# Altium footprint library WR-FPC_1.00mm.PcbLib: 115 footprints (part 3 of 8)
Each footprint in its own frame and in the unit in brackets; x right, y up, seen from the top. Pads: shape width x height; smd on the part's side, far side on the other; paste and mask are expansions set on the pad; w line width, h text height; cw(c..) or ccw(c..) is an arc to the next point about the centre after c.
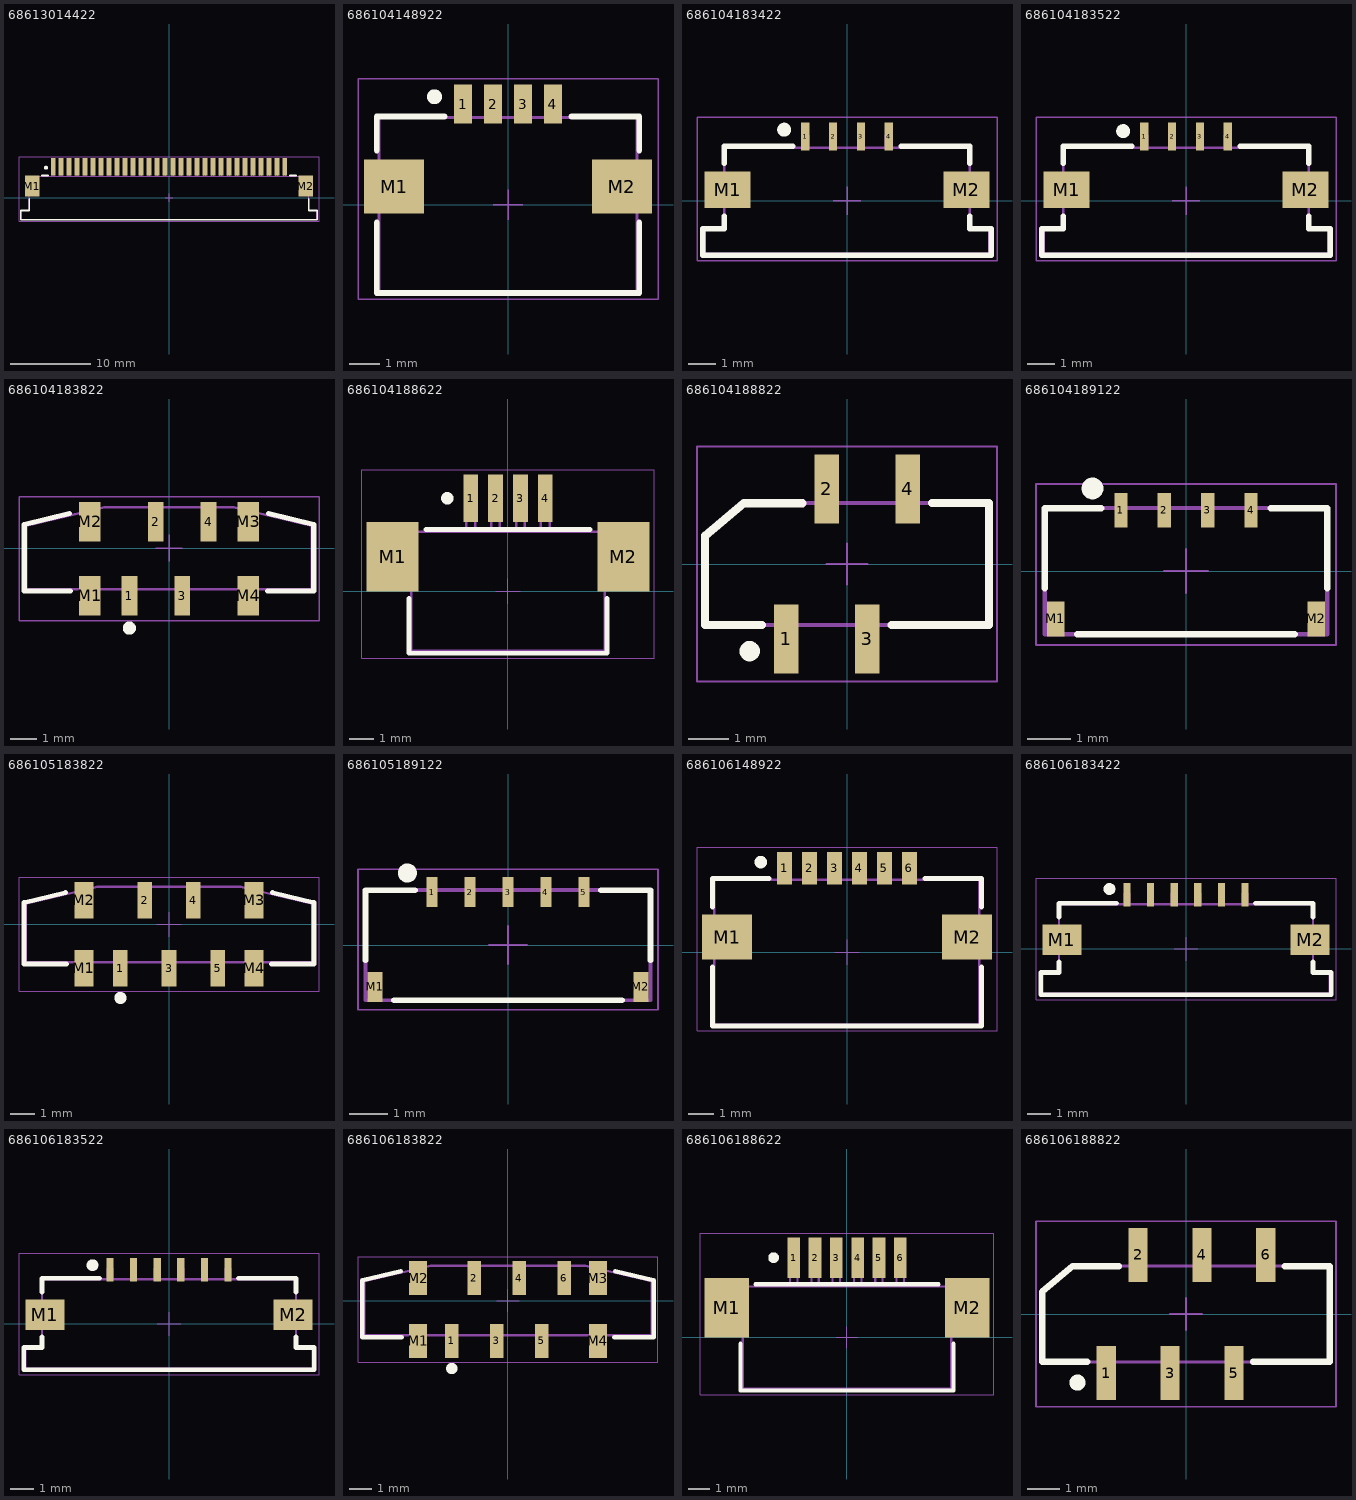
[diagram p2: the footprints below, top view; thin cyan lines are the x and y axes]

## 68613014422 [mm] "ZIF Connectors, Horizontal, Bottom Contact, pitch 1mm, 30p"
height 3.15
pads (32):
  rect 0.6x2.2 smd: 1(-14.5,3.85) 2(-13.5,3.85) 3(-12.5,3.85) 4(-11.5,3.85) 5(-10.5,3.85) 6(-9.5,3.85) 7(-8.5,3.85) 8(-7.5,3.85) 9(-6.5,3.85) 10(-5.5,3.85) 11(-4.5,3.85) 12(-3.5,3.85) 13(-2.5,3.85) 14(-1.5,3.85) 15(-0.5,3.85) 16(0.5,3.85) 17(1.5,3.85) 18(2.5,3.85) 19(3.5,3.85) 20(4.5,3.85) 21(5.5,3.85) 22(6.5,3.85) 23(7.5,3.85) 24(8.5,3.85) 25(9.5,3.85) 26(10.5,3.85) 27(11.5,3.85) 28(12.5,3.85) 29(13.5,3.85) 30(14.5,3.85)
  rect 1.8x2.6 smd: M1(-17.1,1.45) M2(17.1,1.45)
Top Overlay:
  circle w0.25: c-15.4,3.75 r0.125
  lines w0.2: -17.5,-0.15 -17.5,-1.6 -18.575,-1.6 -18.575,-2.775 18.575,-2.775 18.575,-1.6 17.5,-1.6 17.5,-0.15 ; -15.9,2.775 -15.1,2.775 ; 15.1,2.775 15.9,2.775
Top Designator:
  text ".Designator" at -7.498,-0.5 h1.5
Top Component Outline:
  lines w0.1: -14.62,2.7 -14.62,4.4 -14.38,4.4 -14.38,2.7 ; -13.62,2.7 -13.62,4.4 -13.38,4.4 -13.38,2.7 ; -12.62,2.7 -12.62,4.4 -12.38,4.4 -12.38,2.7 ; -11.62,2.7 -11.62,4.4 -11.38,4.4 -11.38,2.7 ; -10.62,2.7 -10.62,4.4 -10.38,4.4 -10.38,2.7 ; -9.62,2.7 -9.62,4.4 -9.38,4.4 -9.38,2.7 ; -8.62,2.7 -8.62,4.4 -8.38,4.4 -8.38,2.7 ; -7.62,2.7 -7.62,4.4 -7.38,4.4 -7.38,2.7 ; -6.62,2.7 -6.62,4.4 -6.38,4.4 -6.38,2.7 ; -5.62,2.7 -5.62,4.4 -5.38,4.4 -5.38,2.7 ; -4.62,2.7 -4.62,4.4 -4.38,4.4 -4.38,2.7 ; -3.62,2.7 -3.62,4.4 -3.38,4.4 -3.38,2.7 ; -2.62,2.7 -2.62,4.4 -2.38,4.4 -2.38,2.7 ; -1.62,2.7 -1.62,4.4 -1.38,4.4 -1.38,2.7 ; -0.62,2.7 -0.62,4.4 -0.38,4.4 -0.38,2.7 ; 0.38,2.7 0.38,4.4 0.62,4.4 0.62,2.7 ; 1.38,2.7 1.38,4.4 1.62,4.4 1.62,2.7 ; 2.38,2.7 2.38,4.4 2.62,4.4 2.62,2.7 ; 3.38,2.7 3.38,4.4 3.62,4.4 3.62,2.7 ; 4.38,2.7 4.38,4.4 4.62,4.4 4.62,2.7 ; 5.38,2.7 5.38,4.4 5.62,4.4 5.62,2.7 ; 6.38,2.7 6.38,4.4 6.62,4.4 6.62,2.7 ; 7.38,2.7 7.38,4.4 7.62,4.4 7.62,2.7 ; 8.38,2.7 8.38,4.4 8.62,4.4 8.62,2.7 ; 9.38,2.7 9.38,4.4 9.62,4.4 9.62,2.7 ; 10.38,2.7 10.38,4.4 10.62,4.4 10.62,2.7 ; 11.38,2.7 11.38,4.4 11.62,4.4 11.62,2.7 ; 12.38,2.7 12.38,4.4 12.62,4.4 12.62,2.7 ; 13.38,2.7 13.38,4.4 13.62,4.4 13.62,2.7 ; 14.38,2.7 14.38,4.4 14.62,4.4 14.62,2.7 ; -18.5,-2.7 18.5,-2.7 18.5,-1.6 17.5,-1.6 17.5,2.7 -17.5,2.7 -17.5,-1.6 -18.5,-1.6 -18.5,-2.7
Top 3D Body:
  lines w0.1: -14.62,2.7 -14.62,4.4 -14.38,4.4 -14.38,2.7 ; -13.62,2.7 -13.62,4.4 -13.38,4.4 -13.38,2.7 ; -12.62,2.7 -12.62,4.4 -12.38,4.4 -12.38,2.7 ; -11.62,2.7 -11.62,4.4 -11.38,4.4 -11.38,2.7 ; -10.62,2.7 -10.62,4.4 -10.38,4.4 -10.38,2.7 ; -9.62,2.7 -9.62,4.4 -9.38,4.4 -9.38,2.7 ; -8.62,2.7 -8.62,4.4 -8.38,4.4 -8.38,2.7 ; -7.62,2.7 -7.62,4.4 -7.38,4.4 -7.38,2.7 ; -6.62,2.7 -6.62,4.4 -6.38,4.4 -6.38,2.7 ; -5.62,2.7 -5.62,4.4 -5.38,4.4 -5.38,2.7 ; -4.62,2.7 -4.62,4.4 -4.38,4.4 -4.38,2.7 ; -3.62,2.7 -3.62,4.4 -3.38,4.4 -3.38,2.7 ; -2.62,2.7 -2.62,4.4 -2.38,4.4 -2.38,2.7 ; -1.62,2.7 -1.62,4.4 -1.38,4.4 -1.38,2.7 ; -0.62,2.7 -0.62,4.4 -0.38,4.4 -0.38,2.7 ; 0.38,2.7 0.38,4.4 0.62,4.4 0.62,2.7 ; 1.38,2.7 1.38,4.4 1.62,4.4 1.62,2.7 ; 2.38,2.7 2.38,4.4 2.62,4.4 2.62,2.7 ; 3.38,2.7 3.38,4.4 3.62,4.4 3.62,2.7 ; 4.38,2.7 4.38,4.4 4.62,4.4 4.62,2.7 ; 5.38,2.7 5.38,4.4 5.62,4.4 5.62,2.7 ; 6.38,2.7 6.38,4.4 6.62,4.4 6.62,2.7 ; 7.38,2.7 7.38,4.4 7.62,4.4 7.62,2.7 ; 8.38,2.7 8.38,4.4 8.62,4.4 8.62,2.7 ; 9.38,2.7 9.38,4.4 9.62,4.4 9.62,2.7 ; 10.38,2.7 10.38,4.4 10.62,4.4 10.62,2.7 ; 11.38,2.7 11.38,4.4 11.62,4.4 11.62,2.7 ; 12.38,2.7 12.38,4.4 12.62,4.4 12.62,2.7 ; 13.38,2.7 13.38,4.4 13.62,4.4 13.62,2.7 ; 14.38,2.7 14.38,4.4 14.62,4.4 14.62,2.7 ; -18.5,-2.7 -18.5,-1.6 -17.5,-1.6 -17.5,2.7 17.5,2.7 17.5,-1.6 18.5,-1.6 18.5,-2.7 -18.5,-2.7
Top Courtyard:
  lines w0.05: -0.5,0 0.5,0 ; 0,-0.5 0,0.5 ; -18.775,-2.975 18.775,-2.975 18.775,5.15 -18.775,5.15 -18.775,-2.975
3D body "68613014422.stp": height 3.02, standoff 0.01, extent -18.5,-2.7 18.5,4.4

## 686104148922 [mm] "ZIF Connectors, Horizontal, Bottom Contact Hinge Type, pitch 1mm, 4p"
height 2.3
pads (6):
  rect 0.6x1.3 smd: 1(-1.5,3.35) 2(-0.5,3.35) 3(0.5,3.35) 4(1.5,3.35)
  rect 2x1.8 smd: M1(-3.8,0.6) M2(3.8,0.6)
Top Overlay:
  circle w0.25: c-2.45,3.6 r0.125
  lines w0.2: -4.375,-0.6 -4.375,-2.95 4.375,-2.95 4.375,-0.6 ; -4.375,1.8 -4.375,2.95 -2.125,2.95 ; 2.125,2.95 4.375,2.95 4.375,1.8
Top Designator:
  text ".Designator" at -7.498,-0.5 h1.5
Top Component Outline:
  lines w0.1: -1.6,2.9 -1.6,3.6 -1.4,3.6 -1.4,2.9 ; -0.6,2.9 -0.6,3.6 -0.4,3.6 -0.4,2.9 ; 0.4,2.9 0.4,3.6 0.6,3.6 0.6,2.9 ; 1.4,2.9 1.4,3.6 1.6,3.6 1.6,2.9 ; -4.3,-2.9 4.3,-2.9 4.3,2.9 -4.3,2.9 -4.3,-2.9
Top 3D Body:
  lines w0.1: -1.6,2.9 -1.6,3.6 -1.4,3.6 -1.4,2.9 ; -0.6,2.9 -0.6,3.6 -0.4,3.6 -0.4,2.9 ; 0.4,2.9 0.4,3.6 0.6,3.6 0.6,2.9 ; 1.4,2.9 1.4,3.6 1.6,3.6 1.6,2.9 ; -4.3,-2.9 -4.3,2.9 4.3,2.9 4.3,-2.9 -4.3,-2.9
Top Courtyard:
  lines w0.05: -0.5,0 0.5,0 ; 0,-0.5 0,0.5 ; -5,-3.15 5,-3.15 5,4.2 -5,4.2 -5,-3.15
3D body "686104148922.stp": height 2.27, standoff 0.02, extent -4.3,-2.9 4.3,3.6

## 686104183422 [mm] "ZIF Connectors, Horizontal, Top Contact Low Profile, pitch 1mm, 4p"
height 1.3
pads (6):
  rect 0.3x1 smd: 1(-1.5,2.3) 2(-0.5,2.3) 3(0.5,2.3) 4(1.5,2.3)
  rect 1.65x1.3 smd: M1(-4.275,0.4) M2(4.275,0.4)
Top Overlay:
  circle w0.25: c-2.25,2.55 r0.125
  lines w0.2: -4.4,-0.55 -4.4,-1 -5.175,-1 -5.175,-1.95 5.175,-1.95 5.175,-1 4.4,-1 4.4,-0.55 ; -4.4,1.35 -4.4,1.95 -1.95,1.95 ; 1.95,1.95 4.4,1.95 4.4,1.35
Top Designator:
  text ".Designator" at -7.498,-0.5 h1.5
Top Component Outline:
  lines w0.1: -1.6,1.9 -1.6,2.35 -1.4,2.35 -1.4,1.9 ; -0.6,1.9 -0.6,2.35 -0.4,2.35 -0.4,1.9 ; 0.4,1.9 0.4,2.35 0.6,2.35 0.6,1.9 ; 1.4,1.9 1.4,2.35 1.6,2.35 1.6,1.9 ; -5.1,-1 -4.4,-1 -4.4,1.9 4.4,1.9 4.4,-1 5.1,-1 5.1,-1.9 -5.1,-1.9 -5.1,-1 ; -5.1,-1 -5.1,-1
Top 3D Body:
  lines w0.1: -1.6,1.9 -1.6,2.35 -1.4,2.35 -1.4,1.9 ; -0.6,1.9 -0.6,2.35 -0.4,2.35 -0.4,1.9 ; 0.4,1.9 0.4,2.35 0.6,2.35 0.6,1.9 ; 1.4,1.9 1.4,2.35 1.6,2.35 1.6,1.9 ; -5.1,-1 -5.1,-1.9 5.1,-1.9 5.1,-1 4.4,-1 4.4,1.9 -4.4,1.9 -4.4,-1 -5.1,-1 ; -5.1,-1 -5.1,-1
Top Courtyard:
  lines w0.05: -0.5,0 0.5,0 ; 0,-0.5 0,0.5 ; -5.375,-2.15 5.375,-2.15 5.375,3 -5.375,3 -5.375,-2.15
3D body "686104183422.stp": height 1.28, standoff -0.01, extent -5.1,-1.9 5.1,2.35

## 686104183522 [mm] "ZIF Connectors, Horizontal, Bottom Contact Low Profile, pitch 1mm, 4p"
height 1.3
pads (6):
  rect 0.3x1 smd: 1(-1.5,2.3) 2(-0.5,2.3) 3(0.5,2.3) 4(1.5,2.3)
  rect 1.65x1.3 smd: M1(-4.275,0.4) M2(4.275,0.4)
Top Overlay:
  circle w0.25: c-2.25,2.5 r0.125
  lines w0.2: -4.4,-0.55 -4.4,-1 -5.175,-1 -5.175,-1.95 5.175,-1.95 5.175,-1 4.4,-1 4.4,-0.55 ; -4.4,1.35 -4.4,1.95 -1.95,1.95 ; 1.95,1.95 4.4,1.95 4.4,1.35
Top Designator:
  text ".Designator" at -7.498,-0.5 h1.5
Top Component Outline:
  lines w0.1: -1.6,1.9 -1.6,2.35 -1.4,2.35 -1.4,1.9 ; -0.6,1.9 -0.6,2.35 -0.4,2.35 -0.4,1.9 ; 0.4,1.9 0.4,2.35 0.6,2.35 0.6,1.9 ; 1.4,1.9 1.4,2.35 1.6,2.35 1.6,1.9 ; -5.1,-1 -5.1,-1.9 5.1,-1.9 5.1,-1 4.4,-1 4.4,1.9 -4.4,1.9 -4.4,-1 -5.1,-1 ; -5.1,-1 -5.1,-1
Top 3D Body:
  lines w0.1: -1.6,1.9 -1.6,2.35 -1.4,2.35 -1.4,1.9 ; -0.6,1.9 -0.6,2.35 -0.4,2.35 -0.4,1.9 ; 0.4,1.9 0.4,2.35 0.6,2.35 0.6,1.9 ; 1.4,1.9 1.4,2.35 1.6,2.35 1.6,1.9 ; -5.1,-1 -4.4,-1 -4.4,1.9 4.4,1.9 4.4,-1 5.1,-1 5.1,-1.9 -5.1,-1.9 -5.1,-1 ; -5.1,-1 -5.1,-1
Top Courtyard:
  lines w0.05: -0.5,0 0.5,0 ; 0,-0.5 0,0.5 ; -5.375,-2.15 -5.375,3 5.375,3 5.375,-2.15 -5.375,-2.15
3D body "686104183522.stp": height 1.24, standoff -0.01, extent -5.1,-1.9 5.1,2.35

## 686104183822 [mm] "ZIF Connectors, Vertical, Type A, pitch 1mm, 4p"
height 4
pads (8):
  rect 0.6x1.5 smd: 1(-1.5,-1.8) 2(-0.5,1) 3(0.5,-1.8) 4(1.5,1)
  rect 0.8x1.5 smd: M1(-3,-1.8) M2(-3,1) M3(3,1) M4(3,-1.8)
Top Overlay:
  circle w0.25: c-1.5,-3.025 r0.125
  lines w0.2: -3.765,1.308 -5.475,0.897 -5.475,-1.625 -3.725,-1.625 ; 3.725,-1.625 5.475,-1.625 5.475,0.897 3.765,1.308
Top Designator:
  text ".Designator" at -7.498,-0.5 h1.5
Top Component Outline:
  lines w0.1: -3.2,-1.55 -3.2,-2.05 -2.8,-2.05 -2.8,-1.55 ; -1.6,-1.55 -1.6,-2.05 -1.4,-2.05 -1.4,-1.55 ; 0.4,-1.55 0.4,-2.05 0.6,-2.05 0.6,-1.55 ; 2.8,-1.55 2.8,-2.05 3.2,-2.05 3.2,-1.55 ; -5.4,-1.55 -5.4,0.84 -2.45,1.549 2.45,1.55 5.4,0.84 5.4,-1.55 -5.4,-1.55
Top 3D Body:
  lines w0.1: -3.2,-1.55 -3.2,-2.05 -2.8,-2.05 -2.8,-1.55 ; -1.6,-1.55 -1.6,-2.05 -1.4,-2.05 -1.4,-1.55 ; 0.4,-1.55 0.4,-2.05 0.6,-2.05 0.6,-1.55 ; 2.8,-1.55 2.8,-2.05 3.2,-2.05 3.2,-1.55 ; -5.4,-1.55 5.4,-1.55 5.4,0.84 2.45,1.549 -2.45,1.55 -5.4,0.84 -5.4,-1.55
Top Courtyard:
  lines w0.05: -0.5,0 0.5,0 ; 0,-0.5 0,0.5 ; -5.675,-2.75 -5.675,1.95 5.675,1.95 5.675,-2.75 -5.675,-2.75
3D body "686104183822.stp": height 4, standoff 0, extent -5.4,-2.05 5.4,1.55

## 686104188622 [mm] "LIF Connectors, Horizontal, Top Contact, pitch 1mm, 4p"
height 3.1
pads (6):
  rect 0.6x1.9 smd: 1(-1.5,3.75) 2(-0.5,3.75) 3(0.5,3.75) 4(1.5,3.75)
  rect 2.1x2.8 smd: M1(-4.65,1.4) M2(4.65,1.4)
Top Overlay:
  circle w0.25: c-2.45,3.75 r0.125
  lines w0.2: -4,-0.3 -4,-2.5 4,-2.5 4,-0.3 ; -3.3,2.5 3.3,2.5
Top Designator:
  text ".Designator" at -7.498,-0.5 h1.5
Top Component Outline:
  lines w0.1: -1.675,2.4 -1.675,4.4 -1.325,4.4 -1.325,2.4 ; -0.675,2.4 -0.675,4.4 -0.325,4.4 -0.325,2.4 ; 0.325,2.4 0.325,4.4 0.675,4.4 0.675,2.4 ; 1.325,2.4 1.325,4.4 1.675,4.4 1.675,2.4 ; -5.15,0.4 -3.9,0.4 -3.9,-2.4 3.9,-2.4 3.9,0.4 5.15,0.4 5.15,2.4 -5.15,2.4 -5.15,0.4
Top 3D Body:
  lines w0.1: -1.675,2.4 -1.675,4.4 -1.325,4.4 -1.325,2.4 ; -0.675,2.4 -0.675,4.4 -0.325,4.4 -0.325,2.4 ; 0.325,2.4 0.325,4.4 0.675,4.4 0.675,2.4 ; 1.325,2.4 1.325,4.4 1.675,4.4 1.675,2.4 ; -5.15,0.4 -5.15,2.4 5.15,2.4 5.15,0.4 3.9,0.4 3.9,-2.4 -3.9,-2.4 -3.9,0.4 -5.15,0.4
Top Courtyard:
  lines w0.05: -0.5,0 0.5,0 ; 0,-0.5 0,0.5 ; -5.9,-2.7 5.9,-2.7 5.9,4.9 -5.9,4.9 -5.9,-2.7
3D body "686104188622.stp": height 3.1, standoff -0.01, extent -5.15,-2.4 5.15,4.4

## 686104188822 [mm] "LIF Connectors, Vertical Type A,  pitch 1mm, 4p"
height 5.1
pads (4):
  rect 0.6x1.7 smd: 1(-1.5,-1.85) 2(-0.5,1.85) 3(0.5,-1.85) 4(1.5,1.85)
Top Overlay:
  circle w0.25: c-2.4,-2.15 r0.125
  lines w0.2: -2.1,-1.5 -3.5,-1.5 -3.5,0.7 -2.547,1.5 -1.1,1.5 ; 1.1,-1.5 3.5,-1.5 3.5,1.5 2.1,1.5
Top Designator:
  text ".Designator" at -7.498,-0.5 h1.5
Top Component Outline:
  lines w0.1: -2.547,1.5 3.5,1.5 3.5,-1.5 -3.5,-1.5 -3.5,0.7 -2.547,1.5 ; -1.675,-1.5 -1.675,-2.2 -1.325,-2.2 -1.325,-1.5 ; -0.675,1.5 -0.675,2.2 -0.325,2.2 -0.325,1.5 ; 0.325,-1.5 0.325,-2.2 0.675,-2.2 0.675,-1.5 ; 1.325,1.5 1.325,2.2 1.675,2.2 1.675,1.5
Top 3D Body:
  lines w0.1: -2.547,1.5 3.5,1.5 3.5,-1.5 -3.5,-1.5 -3.5,0.7 -2.547,1.5 ; -1.675,-1.5 -1.675,-2.2 -1.325,-2.2 -1.325,-1.5 ; -0.675,1.5 -0.675,2.2 -0.325,2.2 -0.325,1.5 ; 0.325,-1.5 0.325,-2.2 0.675,-2.2 0.675,-1.5 ; 1.325,1.5 1.325,2.2 1.675,2.2 1.675,1.5
Top Courtyard:
  lines w0.05: -0.5,0 0.5,0 ; 0,-0.5 0,0.5 ; -3.7,-2.9 3.7,-2.9 3.7,2.9 -3.7,2.9 -3.7,-2.9
3D body "686104188822.stp": height 5.21, standoff 0.01, extent -3.5,-2.173 3.5,2.227

## 686104189122 [mm] "SMT ZIF Horizontal Back Locking 1mm, 4p"
height 0.96
pads (6):
  rect 0.3x0.8 smd: 1(-1.5,1.4) 2(-0.5,1.4) 3(0.5,1.4) 4(1.5,1.4)
  rect 0.4x0.8 smd: M1(-3,-1.1) M2(3,-1.1)
Top Overlay:
  circle w0.25: c-2.15,1.9 r0.125
  lines w0.15: -3.25,-0.4 -3.25,1.45 -1.95,1.45 ; -2.5,-1.45 2.5,-1.45 ; 1.95,1.45 3.25,1.45 3.25,-0.4
Top Designator:
  text ".Designator" at -7.498,-0.5 h1.5
Top Component Outline:
  lines w0.1: -3.25,-1.45 -3.25,1.45 3.25,1.45 3.25,-1.45 -3.25,-1.45
Top 3D Body:
  lines w0.1: -3.25,-1.45 3.25,-1.45 3.25,1.45 -3.25,1.45 -3.25,-1.45
Top Courtyard:
  lines w0.05: -0.5,0 0.5,0 ; 0,-0.5 0,0.5 ; -3.45,-1.7 3.45,-1.7 3.45,2 -3.45,2 -3.45,-1.7
3D body "686104189122.stp": height 1.79, standoff 0.01, extent -3.25,-1.45 3.25,1.65

## 686105183822 [mm] "ZIF Connectors, Vertical, Type A, pitch 1mm, 5p"
height 4
pads (9):
  rect 0.6x1.5 smd: 1(-2,-1.8) 2(-1,1) 3(0,-1.8) 4(1,1) 5(2,-1.8)
  rect 0.8x1.5 smd: M1(-3.5,-1.8) M2(-3.5,1) M3(3.5,1) M4(3.5,-1.8)
Top Overlay:
  circle w0.25: c-2,-3.025 r0.125
  lines w0.2: -4.265,1.308 -5.975,0.897 -5.975,-1.625 -4.225,-1.625 ; 4.225,-1.625 5.975,-1.625 5.975,0.897 4.265,1.308
Top Designator:
  text ".Designator" at -7.498,-0.5 h1.5
Top Component Outline:
  lines w0.1: -3.7,-1.55 -3.7,-2.05 -3.3,-2.05 -3.3,-1.55 ; -2.1,-1.55 -2.1,-2.05 -1.9,-2.05 -1.9,-1.55 ; -0.1,-1.55 -0.1,-2.05 0.1,-2.05 0.1,-1.55 ; 1.9,-1.55 1.9,-2.05 2.1,-2.05 2.1,-1.55 ; 3.3,-1.55 3.3,-2.05 3.7,-2.05 3.7,-1.55 ; -5.9,-1.55 5.9,-1.55 5.9,0.84 2.95,1.549 -2.95,1.55 -5.9,0.84 -5.9,-1.55
Top 3D Body:
  lines w0.1: -3.7,-1.55 -3.7,-2.05 -3.3,-2.05 -3.3,-1.55 ; -2.1,-1.55 -2.1,-2.05 -1.9,-2.05 -1.9,-1.55 ; -0.1,-1.55 -0.1,-2.05 0.1,-2.05 0.1,-1.55 ; 1.9,-1.55 1.9,-2.05 2.1,-2.05 2.1,-1.55 ; 3.3,-1.55 3.3,-2.05 3.7,-2.05 3.7,-1.55 ; -5.9,-1.55 -5.9,0.84 -2.95,1.549 2.95,1.55 5.9,0.84 5.9,-1.55 -5.9,-1.55
Top Courtyard:
  lines w0.05: -0.5,0 0.5,0 ; 0,-0.5 0,0.5 ; -6.175,-2.75 6.175,-2.75 6.175,1.95 -6.175,1.95 -6.175,-2.75
3D body "686105183822.stp": height 4, standoff -0.02, extent -5.9,-2.05 5.9,1.55

## 686105189122 [mm] "SMT ZIF Horizontal Back Locking 1mm, 5p"
height 0.96
pads (7):
  rect 0.3x0.8 smd: 1(-2,1.4) 2(-1,1.4) 3(0,1.4) 4(1,1.4) 5(2,1.4)
  rect 0.4x0.8 smd: M1(-3.5,-1.1) M2(3.5,-1.1)
Top Overlay:
  circle w0.25: c-2.65,1.9 r0.125
  lines w0.15: -3.75,-0.4 -3.75,1.45 -2.45,1.45 ; -3,-1.45 3,-1.45 ; 2.45,1.45 3.75,1.45 3.75,-0.4
Top Designator:
  text ".Designator" at -7.498,-0.5 h1.5
Top Component Outline:
  lines w0.1: -3.75,-1.45 3.75,-1.45 3.75,1.45 -3.75,1.45 -3.75,-1.45
Top 3D Body:
  lines w0.1: -3.75,-1.45 -3.75,1.45 3.75,1.45 3.75,-1.45 -3.75,-1.45
Top Courtyard:
  lines w0.05: -0.5,0 0.5,0 ; 0,-0.5 0,0.5 ; -3.95,-1.7 -3.95,2 3.95,2 3.95,-1.7 -3.95,-1.7
3D body "686105189122.stp": height 1.79, standoff 0.01, extent -3.75,-1.45 3.75,1.652

## 686106148922 [mm] "ZIF Connectors, Horizontal, Bottom Contact Hinge Type, pitch 1mm, 6p"
height 2.3
pads (8):
  rect 0.6x1.3 smd: 1(-2.5,3.35) 2(-1.5,3.35) 3(-0.5,3.35) 4(0.5,3.35) 5(1.5,3.35) 6(2.5,3.35)
  rect 2x1.8 smd: M1(-4.8,0.6) M2(4.8,0.6)
Top Overlay:
  circle w0.25: c-3.45,3.6 r0.125
  lines w0.2: -5.375,-0.6 -5.375,-2.95 5.375,-2.95 5.375,-0.6 ; -5.375,1.8 -5.375,2.95 -3.125,2.95 ; 3.125,2.95 5.375,2.95 5.375,1.8
Top Designator:
  text ".Designator" at -7.498,-0.5 h1.5
Top Component Outline:
  lines w0.1: -2.6,2.9 -2.6,3.6 -2.4,3.6 -2.4,2.9 ; -1.6,2.9 -1.6,3.6 -1.4,3.6 -1.4,2.9 ; -0.6,2.9 -0.6,3.6 -0.4,3.6 -0.4,2.9 ; 0.4,2.9 0.4,3.6 0.6,3.6 0.6,2.9 ; 1.4,2.9 1.4,3.6 1.6,3.6 1.6,2.9 ; 2.4,2.9 2.4,3.6 2.6,3.6 2.6,2.9 ; -5.3,-2.9 5.3,-2.9 5.3,2.9 -5.3,2.9 -5.3,-2.9
Top 3D Body:
  lines w0.1: -2.6,2.9 -2.6,3.6 -2.4,3.6 -2.4,2.9 ; -1.6,2.9 -1.6,3.6 -1.4,3.6 -1.4,2.9 ; -0.6,2.9 -0.6,3.6 -0.4,3.6 -0.4,2.9 ; 0.4,2.9 0.4,3.6 0.6,3.6 0.6,2.9 ; 1.4,2.9 1.4,3.6 1.6,3.6 1.6,2.9 ; 2.4,2.9 2.4,3.6 2.6,3.6 2.6,2.9 ; -5.3,-2.9 -5.3,2.9 5.3,2.9 5.3,-2.9 -5.3,-2.9
Top Courtyard:
  lines w0.05: -0.5,0 0.5,0 ; 0,-0.5 0,0.5 ; -6,-3.15 6,-3.15 6,4.2 -6,4.2 -6,-3.15
3D body "686106148922.stp": height 2.27, standoff 0.02, extent -5.3,-2.9 5.3,3.6

## 686106183422 [mm] "ZIF Connectors, Horizontal, Top Contact Low Profile, pitch 1mm, 6p"
height 1.3
pads (8):
  rect 0.3x1 smd: 1(-2.5,2.3) 2(-1.5,2.3) 3(-0.5,2.3) 4(0.5,2.3) 5(1.5,2.3) 6(2.5,2.3)
  rect 1.65x1.3 smd: M1(-5.275,0.4) M2(5.275,0.4)
Top Overlay:
  circle w0.25: c-3.25,2.55 r0.125
  lines w0.2: -5.4,-0.55 -5.4,-1 -6.175,-1 -6.175,-1.95 6.175,-1.95 6.175,-1 5.4,-1 5.4,-0.55 ; -5.4,1.35 -5.4,1.95 -2.95,1.95 ; 2.95,1.95 5.4,1.95 5.4,1.35
Top Designator:
  text ".Designator" at -7.498,-0.5 h1.5
Top Component Outline:
  lines w0.1: -2.6,1.9 -2.6,2.35 -2.4,2.35 -2.4,1.9 ; -1.6,1.9 -1.6,2.35 -1.4,2.35 -1.4,1.9 ; -0.6,1.9 -0.6,2.35 -0.4,2.35 -0.4,1.9 ; 0.4,1.9 0.4,2.35 0.6,2.35 0.6,1.9 ; 1.4,1.9 1.4,2.35 1.6,2.35 1.6,1.9 ; 2.4,1.9 2.4,2.35 2.6,2.35 2.6,1.9 ; -6.1,-1 -6.1,-1.9 6.1,-1.9 6.1,-1 5.4,-1 5.4,1.9 -5.4,1.9 -5.4,-1 -6.1,-1 ; -6.1,-1 -6.1,-1
Top 3D Body:
  lines w0.1: -2.6,1.9 -2.6,2.35 -2.4,2.35 -2.4,1.9 ; -1.6,1.9 -1.6,2.35 -1.4,2.35 -1.4,1.9 ; -0.6,1.9 -0.6,2.35 -0.4,2.35 -0.4,1.9 ; 0.4,1.9 0.4,2.35 0.6,2.35 0.6,1.9 ; 1.4,1.9 1.4,2.35 1.6,2.35 1.6,1.9 ; 2.4,1.9 2.4,2.35 2.6,2.35 2.6,1.9 ; -6.1,-1 -5.4,-1 -5.4,1.9 5.4,1.9 5.4,-1 6.1,-1 6.1,-1.9 -6.1,-1.9 -6.1,-1 ; -6.1,-1 -6.1,-1
Top Courtyard:
  lines w0.05: -0.5,0 0.5,0 ; 0,-0.5 0,0.5 ; -6.375,-2.15 -6.375,3 6.375,3 6.375,-2.15 -6.375,-2.15
3D body "686106183422.stp": height 1.28, standoff -0.01, extent -6.1,-1.9 6.1,2.35

## 686106183522 [mm] "ZIF Connectors, Horizontal, Bottom Contact Low Profile, pitch 1mm, 6p"
height 1.3
pads (8):
  rect 0.3x1 smd: 1(-2.5,2.3) 2(-1.5,2.3) 3(-0.5,2.3) 4(0.5,2.3) 5(1.5,2.3) 6(2.5,2.3)
  rect 1.65x1.3 smd: M1(-5.275,0.4) M2(5.275,0.4)
Top Overlay:
  circle w0.25: c-3.25,2.5 r0.125
  lines w0.2: -5.4,-0.55 -5.4,-1 -6.175,-1 -6.175,-1.95 6.175,-1.95 6.175,-1 5.4,-1 5.4,-0.55 ; -5.4,1.35 -5.4,1.95 -2.95,1.95 ; 2.95,1.95 5.4,1.95 5.4,1.35
Top Designator:
  text ".Designator" at -7.498,-0.5 h1.5
Top Component Outline:
  lines w0.1: -2.6,1.9 -2.6,2.35 -2.4,2.35 -2.4,1.9 ; -1.6,1.9 -1.6,2.35 -1.4,2.35 -1.4,1.9 ; -0.6,1.9 -0.6,2.35 -0.4,2.35 -0.4,1.9 ; 0.4,1.9 0.4,2.35 0.6,2.35 0.6,1.9 ; 1.4,1.9 1.4,2.35 1.6,2.35 1.6,1.9 ; 2.4,1.9 2.4,2.35 2.6,2.35 2.6,1.9 ; -6.1,-1 -5.4,-1 -5.4,1.9 5.4,1.9 5.4,-1 6.1,-1 6.1,-1.9 -6.1,-1.9 -6.1,-1 ; -6.1,-1 -6.1,-1
Top 3D Body:
  lines w0.1: -2.6,1.9 -2.6,2.35 -2.4,2.35 -2.4,1.9 ; -1.6,1.9 -1.6,2.35 -1.4,2.35 -1.4,1.9 ; -0.6,1.9 -0.6,2.35 -0.4,2.35 -0.4,1.9 ; 0.4,1.9 0.4,2.35 0.6,2.35 0.6,1.9 ; 1.4,1.9 1.4,2.35 1.6,2.35 1.6,1.9 ; 2.4,1.9 2.4,2.35 2.6,2.35 2.6,1.9 ; -6.1,-1 -6.1,-1.9 6.1,-1.9 6.1,-1 5.4,-1 5.4,1.9 -5.4,1.9 -5.4,-1 -6.1,-1 ; -6.1,-1 -6.1,-1
Top Courtyard:
  lines w0.05: -0.5,0 0.5,0 ; 0,-0.5 0,0.5 ; -6.375,-2.15 6.375,-2.15 6.375,3 -6.375,3 -6.375,-2.15
3D body "686106183522.stp": height 1.24, standoff -0.01, extent -6.1,-1.9 6.1,2.35

## 686106183822 [mm] "ZIF Connectors, Vertical, Type A, pitch 1mm, 6p"
height 4
pads (10):
  rect 0.6x1.5 smd: 1(-2.5,-1.8) 2(-1.5,1) 3(-0.5,-1.8) 4(0.5,1) 5(1.5,-1.8) 6(2.5,1)
  rect 0.8x1.5 smd: M1(-4,-1.8) M2(-4,1) M3(4,1) M4(4,-1.8)
Top Overlay:
  circle w0.25: c-2.5,-3.025 r0.125
  lines w0.2: -4.765,1.308 -6.475,0.897 -6.475,-1.625 -4.725,-1.625 ; 4.725,-1.625 6.475,-1.625 6.475,0.897 4.765,1.308
Top Designator:
  text ".Designator" at -7.498,-0.5 h1.5
Top Component Outline:
  lines w0.1: -4.2,-1.55 -4.2,-2.05 -3.8,-2.05 -3.8,-1.55 ; -3.45,1.55 3.45,1.55 6.4,0.84 6.4,-1.55 -6.4,-1.55 -6.4,0.84 -3.45,1.549 ; -2.6,-1.55 -2.6,-2.05 -2.4,-2.05 -2.4,-1.55 ; -0.6,-1.55 -0.6,-2.05 -0.4,-2.05 -0.4,-1.55 ; 1.4,-1.55 1.4,-2.05 1.6,-2.05 1.6,-1.55 ; 3.8,-1.55 3.8,-2.05 4.2,-2.05 4.2,-1.55
Top 3D Body:
  lines w0.1: -4.2,-1.55 -4.2,-2.05 -3.8,-2.05 -3.8,-1.55 ; -3.45,1.55 3.45,1.55 6.4,0.84 6.4,-1.55 -6.4,-1.55 -6.4,0.84 -3.45,1.549 ; -2.6,-1.55 -2.6,-2.05 -2.4,-2.05 -2.4,-1.55 ; -0.6,-1.55 -0.6,-2.05 -0.4,-2.05 -0.4,-1.55 ; 1.4,-1.55 1.4,-2.05 1.6,-2.05 1.6,-1.55 ; 3.8,-1.55 3.8,-2.05 4.2,-2.05 4.2,-1.55
Top Courtyard:
  lines w0.05: -0.5,0 0.5,0 ; 0,-0.5 0,0.5 ; -6.675,-2.75 6.675,-2.75 6.675,1.95 -6.675,1.95 -6.675,-2.75
3D body "686106183822.stp": height 4, standoff -0.02, extent -6.4,-2.05 6.4,1.55

## 686106188622 [mm] "LIF Connectors, Horizontal, Top Contact, pitch 1mm, 6p"
height 3.1
pads (8):
  rect 0.6x1.9 smd: 1(-2.5,3.75) 2(-1.5,3.75) 3(-0.5,3.75) 4(0.5,3.75) 5(1.5,3.75) 6(2.5,3.75)
  rect 2.1x2.8 smd: M1(-5.65,1.4) M2(5.65,1.4)
Top Overlay:
  circle w0.25: c-3.45,3.75 r0.125
  lines w0.2: -5,-0.3 -5,-2.5 5,-2.5 5,-0.3 ; -4.3,2.5 4.3,2.5
Top Designator:
  text ".Designator" at -7.498,-0.5 h1.5
Top Component Outline:
  lines w0.1: -2.675,2.4 -2.675,4.4 -2.325,4.4 -2.325,2.4 ; -1.675,2.4 -1.675,4.4 -1.325,4.4 -1.325,2.4 ; -0.675,2.4 -0.675,4.4 -0.325,4.4 -0.325,2.4 ; 0.325,2.4 0.325,4.4 0.675,4.4 0.675,2.4 ; 1.325,2.4 1.325,4.4 1.675,4.4 1.675,2.4 ; 2.325,2.4 2.325,4.4 2.675,4.4 2.675,2.4 ; -6.15,0.4 -4.9,0.4 -4.9,-2.4 4.9,-2.4 4.9,0.4 6.15,0.4 6.15,2.4 -6.15,2.4 -6.15,0.4
Top 3D Body:
  lines w0.1: -2.675,2.4 -2.675,4.4 -2.325,4.4 -2.325,2.4 ; -1.675,2.4 -1.675,4.4 -1.325,4.4 -1.325,2.4 ; -0.675,2.4 -0.675,4.4 -0.325,4.4 -0.325,2.4 ; 0.325,2.4 0.325,4.4 0.675,4.4 0.675,2.4 ; 1.325,2.4 1.325,4.4 1.675,4.4 1.675,2.4 ; 2.325,2.4 2.325,4.4 2.675,4.4 2.675,2.4 ; -6.15,0.4 -6.15,2.4 6.15,2.4 6.15,0.4 4.9,0.4 4.9,-2.4 -4.9,-2.4 -4.9,0.4 -6.15,0.4
Top Courtyard:
  lines w0.05: -0.5,0 0.5,0 ; 0,-0.5 0,0.5 ; -6.9,-2.7 6.9,-2.7 6.9,4.9 -6.9,4.9 -6.9,-2.7
3D body "686106188622.stp": height 3.1, standoff -0.01, extent -6.15,-2.4 6.15,4.4

## 686106188822 [mm] "LIF Connectors, Vertical Type A,  pitch 1mm, 6p"
height 5.1
pads (6):
  rect 0.6x1.7 smd: 1(-2.5,-1.85) 2(-1.5,1.85) 3(-0.5,-1.85) 4(0.5,1.85) 5(1.5,-1.85) 6(2.5,1.85)
Top Overlay:
  circle w0.25: c-3.4,-2.15 r0.125
  lines w0.2: -3.1,-1.5 -4.5,-1.5 -4.5,0.7 -3.547,1.5 -2.1,1.5 ; 2.1,-1.5 4.5,-1.5 4.5,1.5 3.1,1.5
Top Designator:
  text ".Designator" at -7.498,-0.5 h1.5
Top Component Outline:
  lines w0.1: -2.675,-1.5 -2.675,-2.2 -2.325,-2.2 -2.325,-1.5 ; -1.675,1.5 -1.675,2.2 -1.325,2.2 -1.325,1.5 ; -0.675,-1.5 -0.675,-2.2 -0.325,-2.2 -0.325,-1.5 ; 0.325,1.5 0.325,2.2 0.675,2.2 0.675,1.5 ; 1.325,-1.5 1.325,-2.2 1.675,-2.2 1.675,-1.5 ; 2.325,1.5 2.325,2.2 2.675,2.2 2.675,1.5 ; -4.5,-1.5 -4.5,0.7 -3.547,1.5 4.5,1.5 4.5,-1.5 -4.5,-1.5
Top 3D Body:
  lines w0.1: -2.675,-1.5 -2.675,-2.2 -2.325,-2.2 -2.325,-1.5 ; -1.675,1.5 -1.675,2.2 -1.325,2.2 -1.325,1.5 ; -0.675,-1.5 -0.675,-2.2 -0.325,-2.2 -0.325,-1.5 ; 0.325,1.5 0.325,2.2 0.675,2.2 0.675,1.5 ; 1.325,-1.5 1.325,-2.2 1.675,-2.2 1.675,-1.5 ; 2.325,1.5 2.325,2.2 2.675,2.2 2.675,1.5 ; -4.5,-1.5 4.5,-1.5 4.5,1.5 -3.547,1.5 -4.5,0.7 -4.5,-1.5
Top Courtyard:
  lines w0.05: -0.5,0 0.5,0 ; 0,-0.5 0,0.5 ; -4.7,-2.9 -4.7,2.9 4.7,2.9 4.7,-2.9 -4.7,-2.9
3D body "686106188822.stp": height 5.21, standoff 0.01, extent -4.5,-2.2 4.5,2.2